# EAGLE library part LSM6DS3TR-C (library HEXABITZ_ICs)
STMicroelectronics iNEMO inertial module: 3D accelerometer and 3D gyroscope Source: Datasheet <http://www.st.com/resource/en/datasheet/lsm6ds3tr-c.pdf>
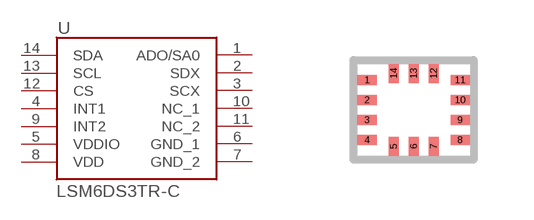
[diagram p11: symbol with the pads of LGA-14(2.5X3X0.86); footprint LGA-14(2.5X3X0.86)]

Designator prefix U

## LSM6DS3TR-C (DESCRIPTION: STMicroelectronics iNEMO inertial module: 3D accelerometer and 3D gyroscope; HEIGHT: mm; MFN: STMicroelectronics; MPN: LSM6DS3TR-C; OCTOPART_ID: b93b7300354766fc; OCTOPART_URL: https://www.mouser.com/Search/Refine.aspx?Keyword=N%2FA)  [LGA-14(2.5X3X0.86)]
1  ADO/SA0
2  SDX
3  SCX
4  INT1
5  VDDIO
6  GND_1
7  GND_2
8  VDD
9  INT2
10  NC_1
11  NC_2
12  CS
13  SCL
14  SDA

## Footprint LGA-14(2.5X3X0.86) (pad centres in mm)
LGA-14(2.5x3x0.86)
smd 0.475 x 0.25: 1 -1.163,0.75; 2 -1.163,0.25; 3 -1.163,-0.25; 4 -1.163,-0.75; 8 1.163,-0.75; 9 1.163,-0.25; 10 1.163,0.25; 11 1.163,0.75
smd 0.25 x 0.475: 5 -0.5,-0.912; 6 0,-0.912; 7 0.5,-0.912; 12 0.5,0.912; 13 0,0.912; 14 -0.5,0.912